# Altium footprint library MCDHN-02F-V.PcbLib: 1 footprints
Each footprint in its own frame and in the unit in brackets; x right, y up, seen from the top. Pads: shape width x height; smd on the part's side, far side on the other; paste and mask are expansions set on the pad; w line width, h text height; cw(c..) or ccw(c..) is an arc to the next point about the centre after c.
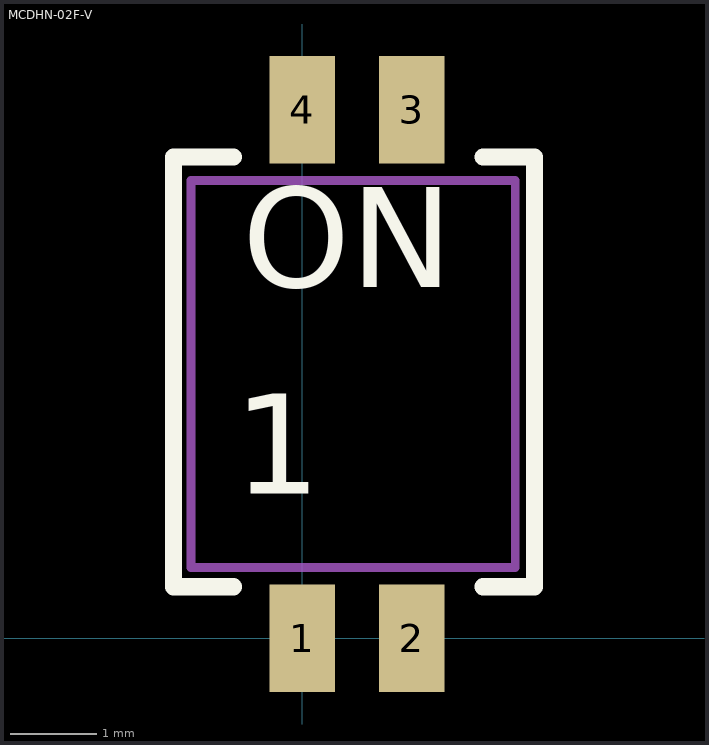
[diagram p0: the footprint, top view; thin cyan lines are the x and y axes]

## MCDHN-02F-V [mm] "MULTICOMP - MCDHN-02F-V - SWITCH, DIP, SMD, 2 WAY"
height 1.5
pads (4):
  rect 0.76x1.25 smd: 1(0,0) 2(1.27,0) 3(1.27,6.15) 4(0,6.15)
Top Overlay:
  lines w0.2: -0.8,0.6 -1.5,0.6 -1.5,5.6 -0.8,5.6 ; 2.1,0.6 2.7,0.6 2.7,5.6 2.1,5.6
  text "1" at -0.8,1.3 h2
  text "ON" at -0.7,3.7 h2
Mechanical 1:
  lines w0.1: -1.295,0.825 2.475,0.825 2.475,5.325 -1.295,5.325 -1.295,0.825
3D body: height 1.5, standoff 0, extent -1.295,0.825 2.475,5.325